# Altium integrated library SignalCommunications.IntLib: 804 symbols (part 5 of 10)
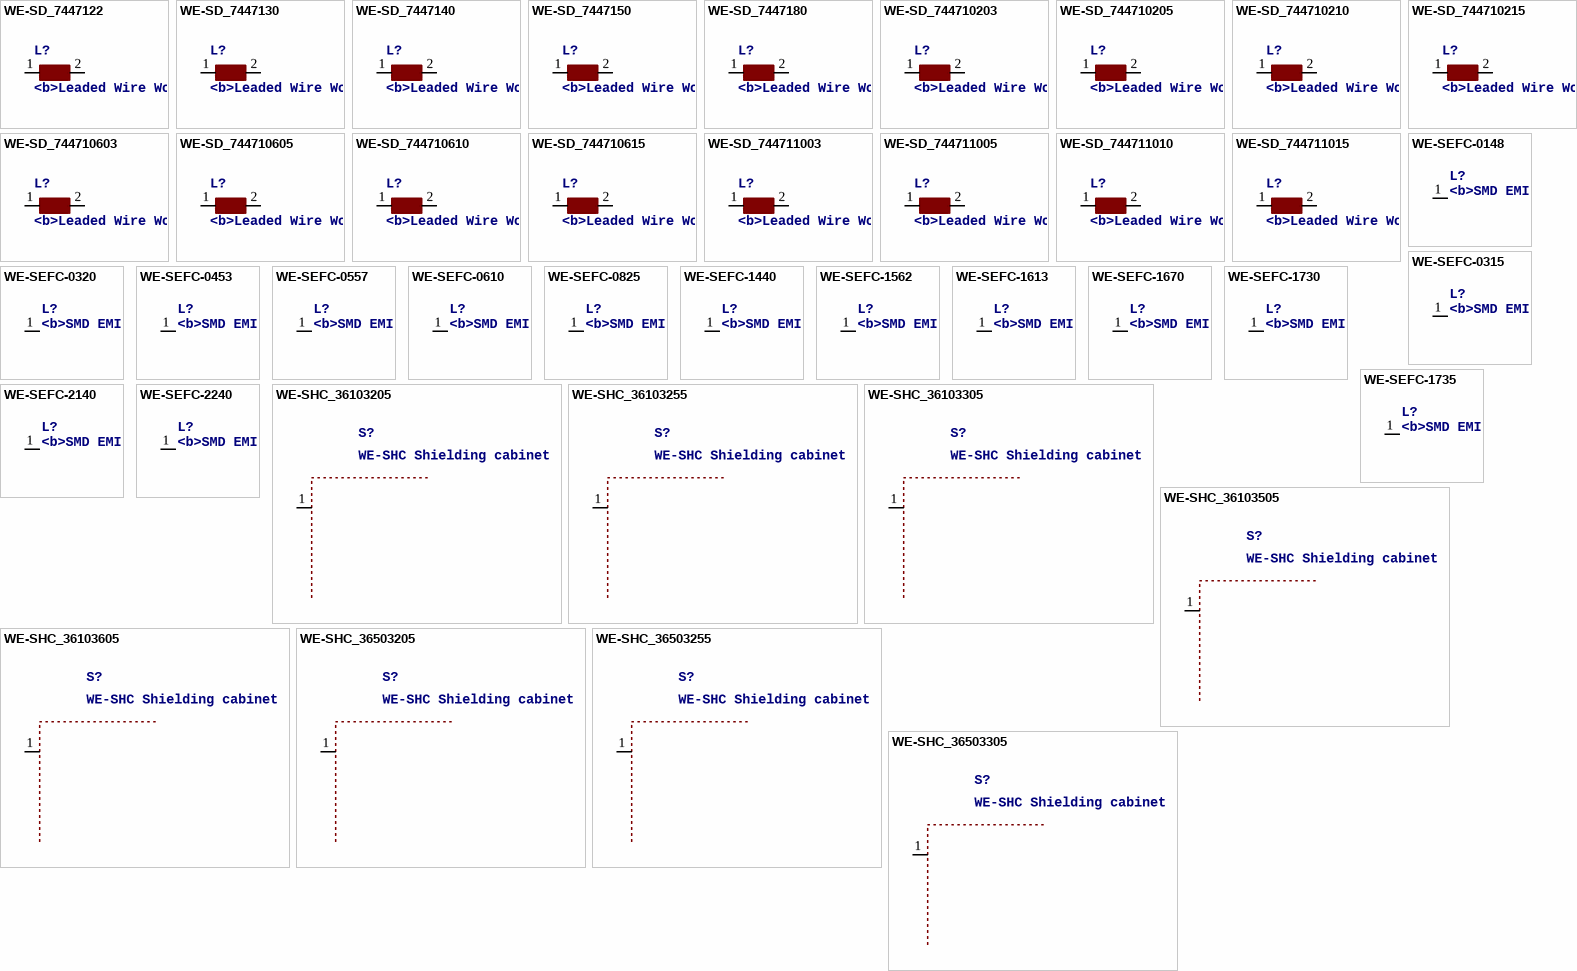
[diagram p46: symbols WE-SD_7447122 to WE-SHC_36503305]

## WE-SHC_36503205
designator S?, comment WE-SHC Shielding cabinet
footprint WE-SHC_36503205
pins: 1 GND (power)

## WE-SHC_36503255
designator S?, comment WE-SHC Shielding cabinet
footprint WE-SHC_36503255
pins: 1 GND (power)

## WE-SHC_36503305
designator S?, comment WE-SHC Shielding cabinet
footprint WE-SHC_36503305
pins: 1 GND (power)

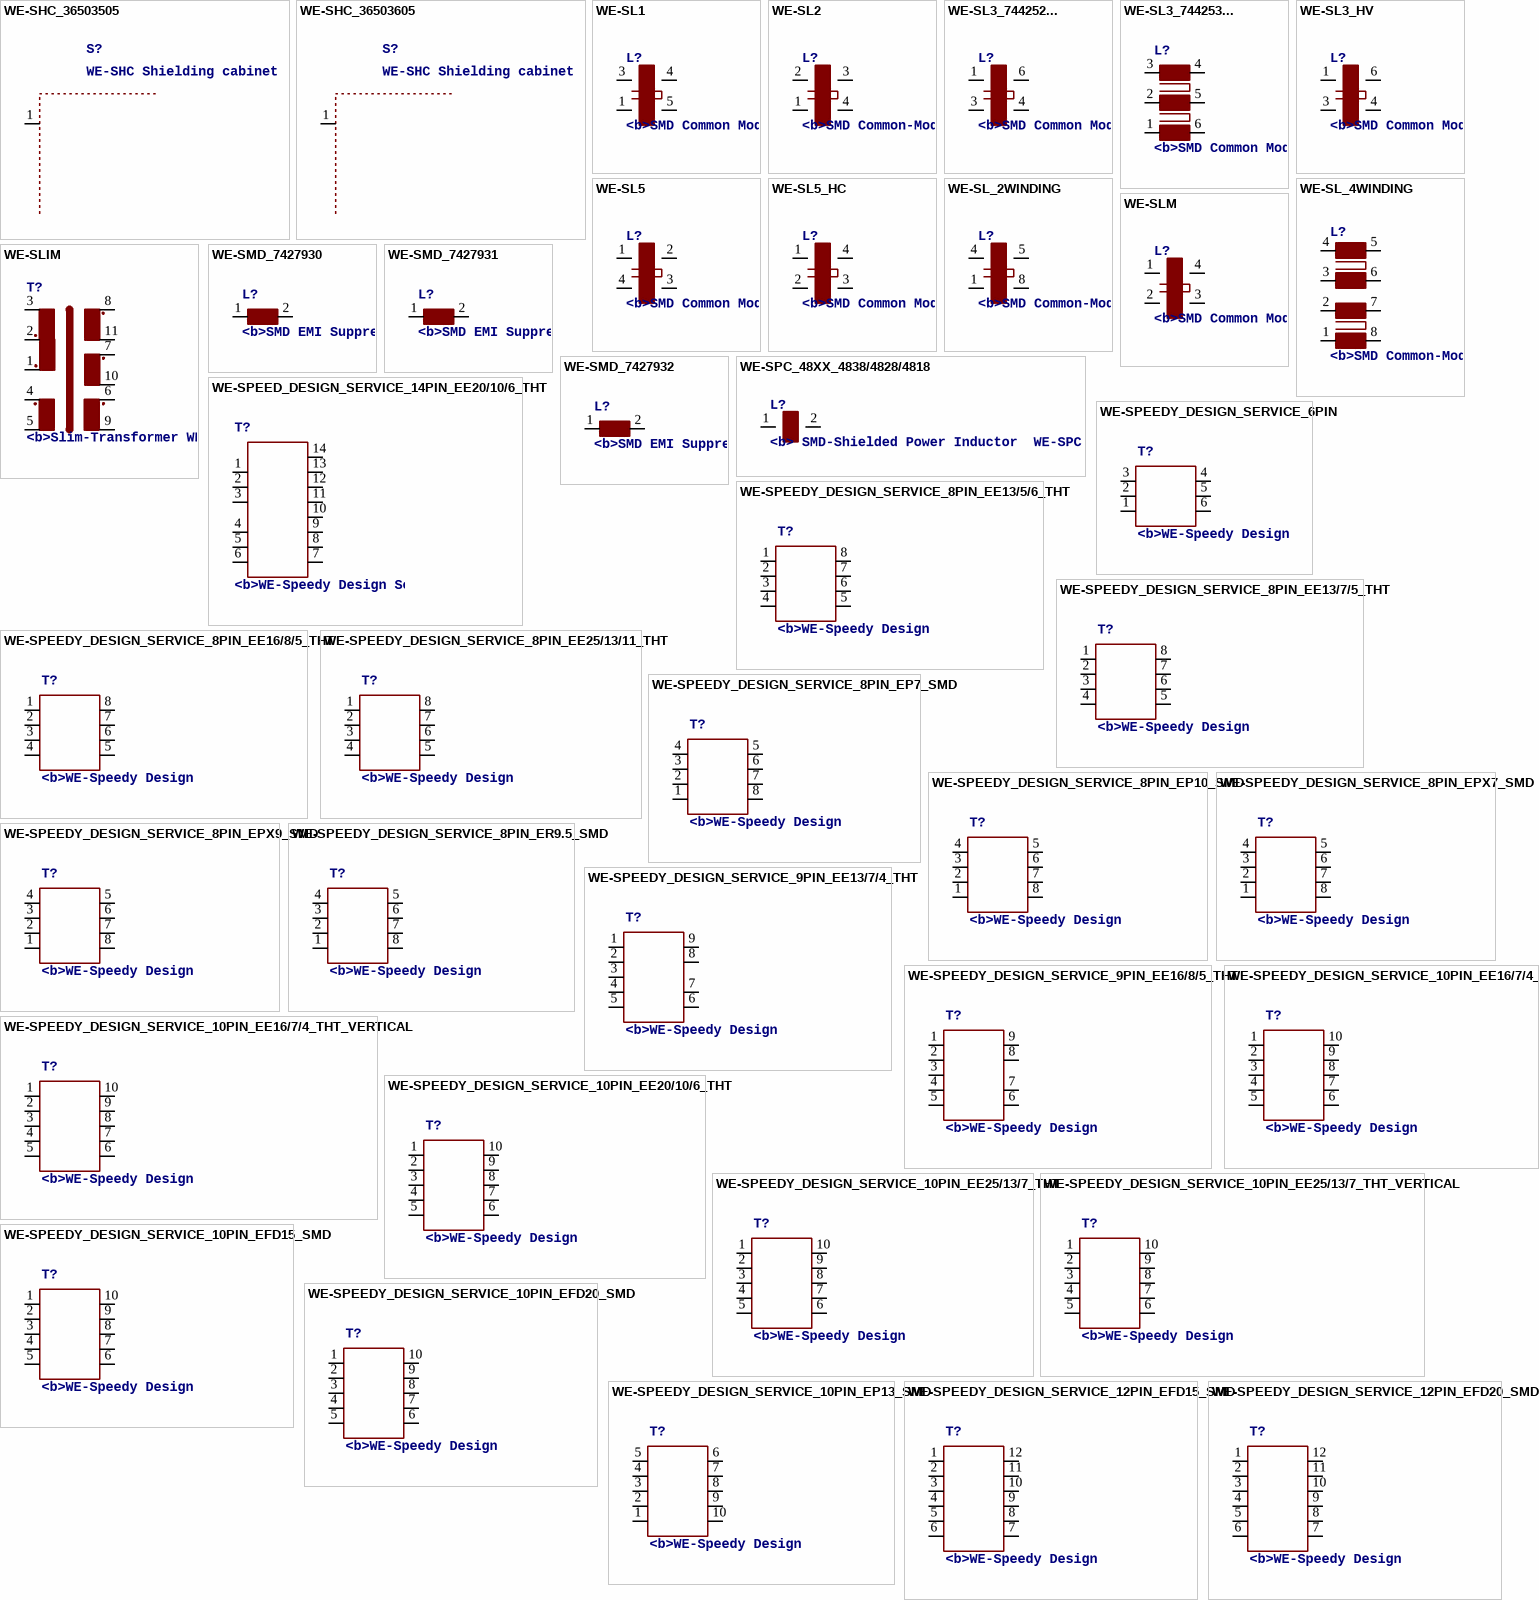
[diagram p31: symbols WE-SHC_36503505 to WE-SPEEDY_DESIGN_SERVICE_12PIN_EFD20_SMD]

## WE-SHC_36503505
designator S?, comment WE-SHC Shielding cabinet
footprint WE-SHC_36503505
pins: 1 GND (power)

## WE-SHC_36503605
designator S?, comment WE-SHC Shielding cabinet
footprint WE-SHC_36503605
pins: 1 GND (power)

## WE-SL1
designator L?, comment <b>SMD Common Mode Line Filter WE-SL1</b><p> / - Small size<br> / - Low Profile, only 1,65 mm<br> / - High Impedance up to 2000 ohm<br> / - High Current up to 300mA <br> / - Low leakage inductance<br><br> / -- USB<br> / -- CAN<br> / -- Firewire<br> / -- Data Lines<br> / -- Power Lines<br>
footprint WE-SL1
pins: 1, 3, 4, 5 2

## WE-SL2
designator L?, comment <b>SMD Common-Mode Line Filter WE-SL2</b><p> / For distortion-free removal of noise from transmitted / electrical signals<br> / - Double current-compensated choke<br> / - Offering a wide band width with the core materials NiZn/MnZn<br><br> / -- Current compensated choke for data and signal lines<br> / -- Power supply systems<br> / -- Filter for measurement signals<br> / -- CAN
footprint WE-SL2
pins: 1, 2 3, 3 4, 4 2

## WE-SL3_744252...
designator L?, comment <b>SMD Common Mode Line Filter WE-SL3</b><p> / - Small size<br> - Low Profile, only 2.5 mm<br>- High Impedance tp to 5000 ohm<br>- High Current up to 700mA <br> / - Low leakage inductance<p> / - USB<br> / - CAN<br> / -  Firewire<br> / - Data Lines<br> / - Power Lines<br>
footprint WE-SL3_744252...
pins: 1 3, 3 1, 4 2, 6 4

## WE-SL3_744253...
designator L?, comment <b>SMD Common Mode Line Filter WE-SL3</b><p> / - Small size<br> - Low Profile, only 2.5 mm<br>- High Impedance tp to 5000 ohm<br>- High Current up to 700mA <br> / - Low leakage inductance<p> / - USB<br> / - CAN<br> / -  Firewire<br> / - Data Lines<br> / - Power Lines<br>
footprint WE-SL3_744253...
pins: 1 3, 2, 3 1, 4 6, 5, 6 4

## WE-SL3_HV
designator L?, comment <b>SMD Common Mode Line Filter WE-SL3 HV with 1.5 kV Isolation Voltage</b><p> / - 1.5 kV isolation voltage <br> / - Low profile<br> / - Small sinze<br> / - Excellent attenuation characteristics<br><br> / -- 10/100/1000 Base-T<br> / -- xDSL<br> / -- Modem<br> / -- T1/E1<br> / -- ISDN<br> / -- For TNV-circuits
footprint WE-SL3_HV
pins: 1 3, 3 1, 4 2, 6 4

## WE-SL5
designator L?, comment <b>SMD Common Mode Line Filter WE-SL5</b><p> / - Small size<br> / - Low Profile<br> / - High Impedance up to 13000 ohm<br> / - High Current up to 2500mA <P> / -- Data Lines<br> / -- Power Lines
footprint WE-SL5
pins: 1 3, 2 4, 3 2, 4 1

## WE-SL5_HC
designator L?, comment <b>SMD Common Mode WE-SL5</b><p> / - Small size<br> / - Low Profile<br> / - High Impedance up to 1000 ohm<br> / - High Current up to 5000mA <P> / -- Data Lines<br> / -- Power Lines
footprint WE-SL5_HC
pins: 1 3, 2 1, 3 2, 4

## WE-SL_2WINDING
designator L?, comment <b>SMD Common-Mode Choke Line Filter WE-SL</b><p> / For distortion-free removal of noise from transmitted / electrical signals<br> / - 2 or 4 winding configuration<br> / - Offering a wide band width with the core materials of NiZn and MnZn<br><br> / -- Current compensated choke for data and signal lines<br> / -- USB/CAN/ISDN-Bus<br> / -- Power supply systems<br> / -- Control lines<br> / -- LAN, PBX, cable TV, CD-ROM, 8mm video, etc.
footprint WE-SL_2WINDING
pins: 1, 4 3, 5 4, 8 2

## WE-SL_4WINDING
designator L?, comment <b>SMD Common-Mode Choke Line Filter WE-SL</b><p> / For distortion-free removal of noise from transmitted / electrical signals<br> / - 2 or 4 winding configuration<br> / - Offering a wide band width with the core materials of NiZn and MnZn<br><br> / -- Current compensated choke for data and signal lines<br> / -- USB/CAN/ISDN-Bus<br> / -- Power supply systems<br> / -- Control lines<br> / -- LAN, PBX, cable TV, CD-ROM, 8mm video, etc.
footprint WE-SL_4WINDING
pins: 1 4, 2 3, 3 2, 4 1, 5 8, 6 7, 7 6, 8 5

## WE-SLIM
designator T?, comment <b>Slim-Transformer WE-SLIM</b><br><br> / - total hight 12.0 mm max.<br> / - height 8.0 mm above PCB<br> / - output power 65W<br><br> / -- offline switch mode power supplies<br> / -- TV<br> / -- devices with heigh issues
footprint WE_LEP28/11.2_6PIN
pins: 1, 2, 3, 4, 5, 6, 7, 8, 9, 10, 11

## WE-SLM
designator L?, comment <b>SMD Common Mode Line Filter WE-SLM</b><p> / - Small size<br> / - Low Profile<br> / - High Impedance<br> / - High current capability up to 300 mA<p> / -- USB<br> / -- CAN<br> / -- Firewire<br> / -- Data Lines<br> / -- Power supply systems<br> / -- Signal Lines
footprint WE-SLM
pins: 1 3, 2 1, 3 2, 4

## WE-SMD_7427930
designator L?, comment <b>SMD EMI Suppression Ferrite Beads (High Current)</b><br><br> / For applications where you need low DC resistance
footprint WE-SMD_7427930
pins: 1, 2

## WE-SMD_7427931
designator L?, comment <b>SMD EMI Suppression Ferrite Beads (High Current)</b><br><br> / For applications where you need low DC resistance
footprint WE-SMD_7427931
pins: 1, 2

## WE-SMD_7427932
designator L?, comment <b>SMD EMI Suppression Ferrite Beads (High Current)</b><br><br> / For applications where you need low DC resistance
footprint WE-SMD_7427932
pins: 1, 2

## WE-SPC_48XX_4838/4828/4818
designator L?, comment <b> SMD-Shielded Power Inductor  WE-SPC
footprint WE-SPC_48XX
pins: 1, 2

## WE-SPEED_DESIGN_SERVICE_14PIN_EE20/10/6_THT
designator T?, comment <b>WE-Speedy Design Service, 14 Pin</b><br><br> / - Any application that fits package style <br> / - Switch Mode Power: Flyback, Forward, Push-Pull, Coupled Inductor<br><br> / -- Telecom Applications: xDSL, POTS Splitter Inductors
footprint WE_EE20/10/6_THT_HORIZONTAL_14PIN
pins: 1, 2, 3, 4, 5, 6, 7, 8, 9, 10, 11, 12, 13, 14

## WE-SPEEDY_DESIGN_SERVICE_6PIN
designator T?, comment <b>WE-Speedy Design Service, 6 Pin</b><br><br> / - Any application that fits package style <br> / - Switch Mode Power: Flyback, Forward, Push-Pull, Coupled Inductor<br><br> / -- Telecom Applications: xDSL, POTS Splitter Inductors
footprint WE_EP5_SMD_6PIN
pins: 1, 2, 3, 4, 5, 6

## WE-SPEEDY_DESIGN_SERVICE_8PIN_EE13/5/6_THT
designator T?, comment <b>WE-Speedy Design Service, 8 Pin</b><br><br> / - Any application that fits package style <br> / - Switch Mode Power: Flyback, Forward, Push-Pull, Coupled Inductor<br><br> / -- Telecom Applications: xDSL, POTS Splitter Inductors
footprint WE_EE13/5/6_HORIZONTAL_8PIN
pins: 1 4, 2 3, 3 2, 4 1, 5 8, 6 7, 7 6, 8 5

## WE-SPEEDY_DESIGN_SERVICE_8PIN_EE13/7/5_THT
designator T?, comment <b>WE-Speedy Design Service, 8 Pin</b><br><br> / - Any application that fits package style <br> / - Switch Mode Power: Flyback, Forward, Push-Pull, Coupled Inductor<br><br> / -- Telecom Applications: xDSL, POTS Splitter Inductors
footprint WE_EE13/7/4_HORIZONTAL_8PIN
pins: 1 4, 2 3, 3 2, 4 1, 5 8, 6 7, 7 6, 8 5

## WE-SPEEDY_DESIGN_SERVICE_8PIN_EE16/8/5_THT
designator T?, comment <b>WE-Speedy Design Service, 8 Pin</b><br><br> / - Any application that fits package style <br> / - Switch Mode Power: Flyback, Forward, Push-Pull, Coupled Inductor<br><br> / -- Telecom Applications: xDSL, POTS Splitter Inductors
footprint WE_EE16/8/5_THT_HORIZONTAL_8PIN
pins: 1 4, 2 3, 3 2, 4 1, 5 8, 6 7, 7 6, 8 5

## WE-SPEEDY_DESIGN_SERVICE_8PIN_EE25/13/11_THT
designator T?, comment <b>WE-Speedy Design Service, 8 Pin</b><br><br> / - Any application that fits package style <br> / - Switch Mode Power: Flyback, Forward, Push-Pull, Coupled Inductor<br><br> / -- Telecom Applications: xDSL, POTS Splitter Inductors
footprint WE_EE25/13/11_THT_VERTICAL_8PIN
pins: 1 4, 2 3, 3 2, 4 1, 5 8, 6 7, 7 6, 8 5

## WE-SPEEDY_DESIGN_SERVICE_8PIN_EP7_SMD
designator T?, comment <b>WE-Speedy Design Service, 8 Pin</b><br><br> / - Any application that fits package style <br> / - Switch Mode Power: Flyback, Forward, Push-Pull, Coupled Inductor<br><br> / -- Telecom Applications: xDSL, POTS Splitter Inductors
footprint WE_EP7_SMD_8PIN
pins: 1, 2, 3, 4, 5, 6, 7, 8

## WE-SPEEDY_DESIGN_SERVICE_8PIN_EP10_SMD
designator T?, comment <b>WE-Speedy Design Service, 8 Pin</b><br><br> / - Any application that fits package style <br> / - Switch Mode Power: Flyback, Forward, Push-Pull, Coupled Inductor<br><br> / -- Telecom Applications: xDSL, POTS Splitter Inductors
footprint WE_EP10_SMD_8PIN
pins: 1, 2, 3, 4, 5, 6, 7, 8

## WE-SPEEDY_DESIGN_SERVICE_8PIN_EPX7_SMD
designator T?, comment <b>WE-Speedy Design Service, 8 Pin</b><br><br> / - Any application that fits package style <br> / - Switch Mode Power: Flyback, Forward, Push-Pull, Coupled Inductor<br><br> / -- Telecom Applications: xDSL, POTS Splitter Inductors
footprint WE_EPX7_SMD_8PIN
pins: 1, 2, 3, 4, 5, 6, 7, 8

## WE-SPEEDY_DESIGN_SERVICE_8PIN_EPX9_SMD
designator T?, comment <b>WE-Speedy Design Service, 8 Pin</b><br><br> / - Any application that fits package style <br> / - Switch Mode Power: Flyback, Forward, Push-Pull, Coupled Inductor<br><br> / -- Telecom Applications: xDSL, POTS Splitter Inductors
footprint WE_EPX9_SMD_8PIN
pins: 1, 2, 3, 4, 5, 6, 7, 8

## WE-SPEEDY_DESIGN_SERVICE_8PIN_ER9.5_SMD
designator T?, comment <b>WE-Speedy Design Service, 8 Pin</b><br><br> / - Any application that fits package style <br> / - Switch Mode Power: Flyback, Forward, Push-Pull, Coupled Inductor<br><br> / -- Telecom Applications: xDSL, POTS Splitter Inductors
footprint WE_ER9.5_SMD_8PIN
pins: 1, 2, 3, 4, 5, 6, 7, 8

## WE-SPEEDY_DESIGN_SERVICE_9PIN_EE13/7/4_THT
designator T?, comment <b>WE-Speedy Design Service, 9 Pin</b><br><br> / - Any application that fits package style <br> / - Switch Mode Power: Flyback, Forward, Push-Pull, Coupled Inductor<br><br> / -- Telecom Applications: xDSL, POTS Splitter Inductors
footprint WE_E13/7/4_THT_HORIZONTAL_9PIN
pins: 1 5, 2 4, 3, 4 2, 5 1, 6 9, 7 8, 8 7, 9 6

## WE-SPEEDY_DESIGN_SERVICE_9PIN_EE16/8/5_THT
designator T?, comment <b>WE-Speedy Design Service, 9 Pin</b><br><br> / - Any application that fits package style <br> / - Switch Mode Power: Flyback, Forward, Push-Pull, Coupled Inductor<br><br> / -- Telecom Applications: xDSL, POTS Splitter Inductors
footprint WE_EE16/8/5_THT_HORIZONTAL_9PIN
pins: 1 5, 2 4, 3, 4 2, 5 1, 6 9, 7 8, 8 7, 9 6

## WE-SPEEDY_DESIGN_SERVICE_10PIN_EE16/7/4_THT
designator T?, comment <b>WE-Speedy Design Service, 10 Pin</b><br><br> / - Any application that fits package style <br> / - Switch Mode Power: Flyback, Forward, Push-Pull, Coupled Inductor<br><br> / -- Telecom Applications: xDSL, POTS Splitter Inductors
footprint WE_EE16/7/4_THT_HORIZONTAL_10PIN
pins: 1, 2, 3, 4, 5, 6, 7, 8, 9, 10

## WE-SPEEDY_DESIGN_SERVICE_10PIN_EE16/7/4_THT_VERTICAL
designator T?, comment <b>WE-Speedy Design Service, 10 Pin</b><br><br> / - Any application that fits package style <br> / - Switch Mode Power: Flyback, Forward, Push-Pull, Coupled Inductor<br><br> / -- Telecom Applications: xDSL, POTS Splitter Inductors
footprint WE_E16/7/4_THT_VERTIKAL_10PIN
pins: 1, 2, 3, 4, 5, 6, 7, 8, 9, 10

## WE-SPEEDY_DESIGN_SERVICE_10PIN_EE20/10/6_THT
designator T?, comment <b>WE-Speedy Design Service, 10 Pin</b><br><br> / - Any application that fits package style <br> / - Switch Mode Power: Flyback, Forward, Push-Pull, Coupled Inductor<br><br> / -- Telecom Applications: xDSL, POTS Splitter Inductors
footprint WE_EE20/10/6_THT_HORIZONTAL_10PIN
pins: 1, 2, 3, 4, 5, 6, 7, 8, 9, 10

## WE-SPEEDY_DESIGN_SERVICE_10PIN_EE25/13/7_THT
designator T?, comment <b>WE-Speedy Design Service, 10 Pin</b><br><br> / - Any application that fits package style <br> / - Switch Mode Power: Flyback, Forward, Push-Pull, Coupled Inductor<br><br> / -- Telecom Applications: xDSL, POTS Splitter Inductors
footprint WE_EE25/13/7_THT_HORIZONTAL_10PIN
pins: 1, 2, 3, 4, 5, 6, 7, 8, 9, 10

## WE-SPEEDY_DESIGN_SERVICE_10PIN_EE25/13/7_THT_VERTICAL
designator T?, comment <b>WE-Speedy Design Service, 10 Pin</b><br><br> / - Any application that fits package style <br> / - Switch Mode Power: Flyback, Forward, Push-Pull, Coupled Inductor<br><br> / -- Telecom Applications: xDSL, POTS Splitter Inductors
footprint WE_EE25/13/7_THT_VERTICAL_10PIN
pins: 1, 2, 3, 4, 5, 6, 7, 8, 9, 10

## WE-SPEEDY_DESIGN_SERVICE_10PIN_EFD15_SMD
designator T?, comment <b>WE-Speedy Design Service, 10 Pin</b><br><br> / - Any application that fits package style <br> / - Switch Mode Power: Flyback, Forward, Push-Pull, Coupled Inductor<br><br> / -- Telecom Applications: xDSL, POTS Splitter Inductors
footprint WE_EFD15_SMD_10PIN
pins: 1, 2, 3, 4, 5, 6, 7, 8, 9, 10

## WE-SPEEDY_DESIGN_SERVICE_10PIN_EFD20_SMD
designator T?, comment <b>WE-Speedy Design Service, 10 Pin</b><br><br> / - Any application that fits package style <br> / - Switch Mode Power: Flyback, Forward, Push-Pull, Coupled Inductor<br><br> / -- Telecom Applications: xDSL, POTS Splitter Inductors
footprint WE_EFD20_SMD_10PIN
pins: 1, 2, 3, 4, 5, 6, 7, 8, 9, 10

## WE-SPEEDY_DESIGN_SERVICE_10PIN_EP13_SMD
designator T?, comment <b>WE-Speedy Design Service, 10 Pin</b><br><br> / - Any application that fits package style <br> / - Switch Mode Power: Flyback, Forward, Push-Pull, Coupled Inductor<br><br> / -- Telecom Applications: xDSL, POTS Splitter Inductors
footprint WE_EP13_SMD_10PIN
pins: 1 5, 2 4, 3, 4 2, 5 1, 6 10, 7 9, 8, 9 7, 10 6

## WE-SPEEDY_DESIGN_SERVICE_12PIN_EFD15_SMD
designator T?, comment <b>WE-Speedy Design Service, 12 Pin</b><br><br> / - Any application that fits package style <br> / - Switch Mode Power: Flyback, Forward, Push-Pull, Coupled Inductor<br><br> / -- Telecom Applications: xDSL, POTS Splitter Inductors
footprint WE_EFD15_SMD_12PIN
pins: 1, 2, 3, 4, 5, 6, 7, 8, 9, 10, 11, 12

## WE-SPEEDY_DESIGN_SERVICE_12PIN_EFD20_SMD
designator T?, comment <b>WE-Speedy Design Service, 12 Pin</b><br><br> / - Any application that fits package style <br> / - Switch Mode Power: Flyback, Forward, Push-Pull, Coupled Inductor<br><br> / -- Telecom Applications: xDSL, POTS Splitter Inductors
footprint WE_EFD20_SMD_12PIN
pins: 1, 2, 3, 4, 5, 6, 7, 8, 9, 10, 11, 12

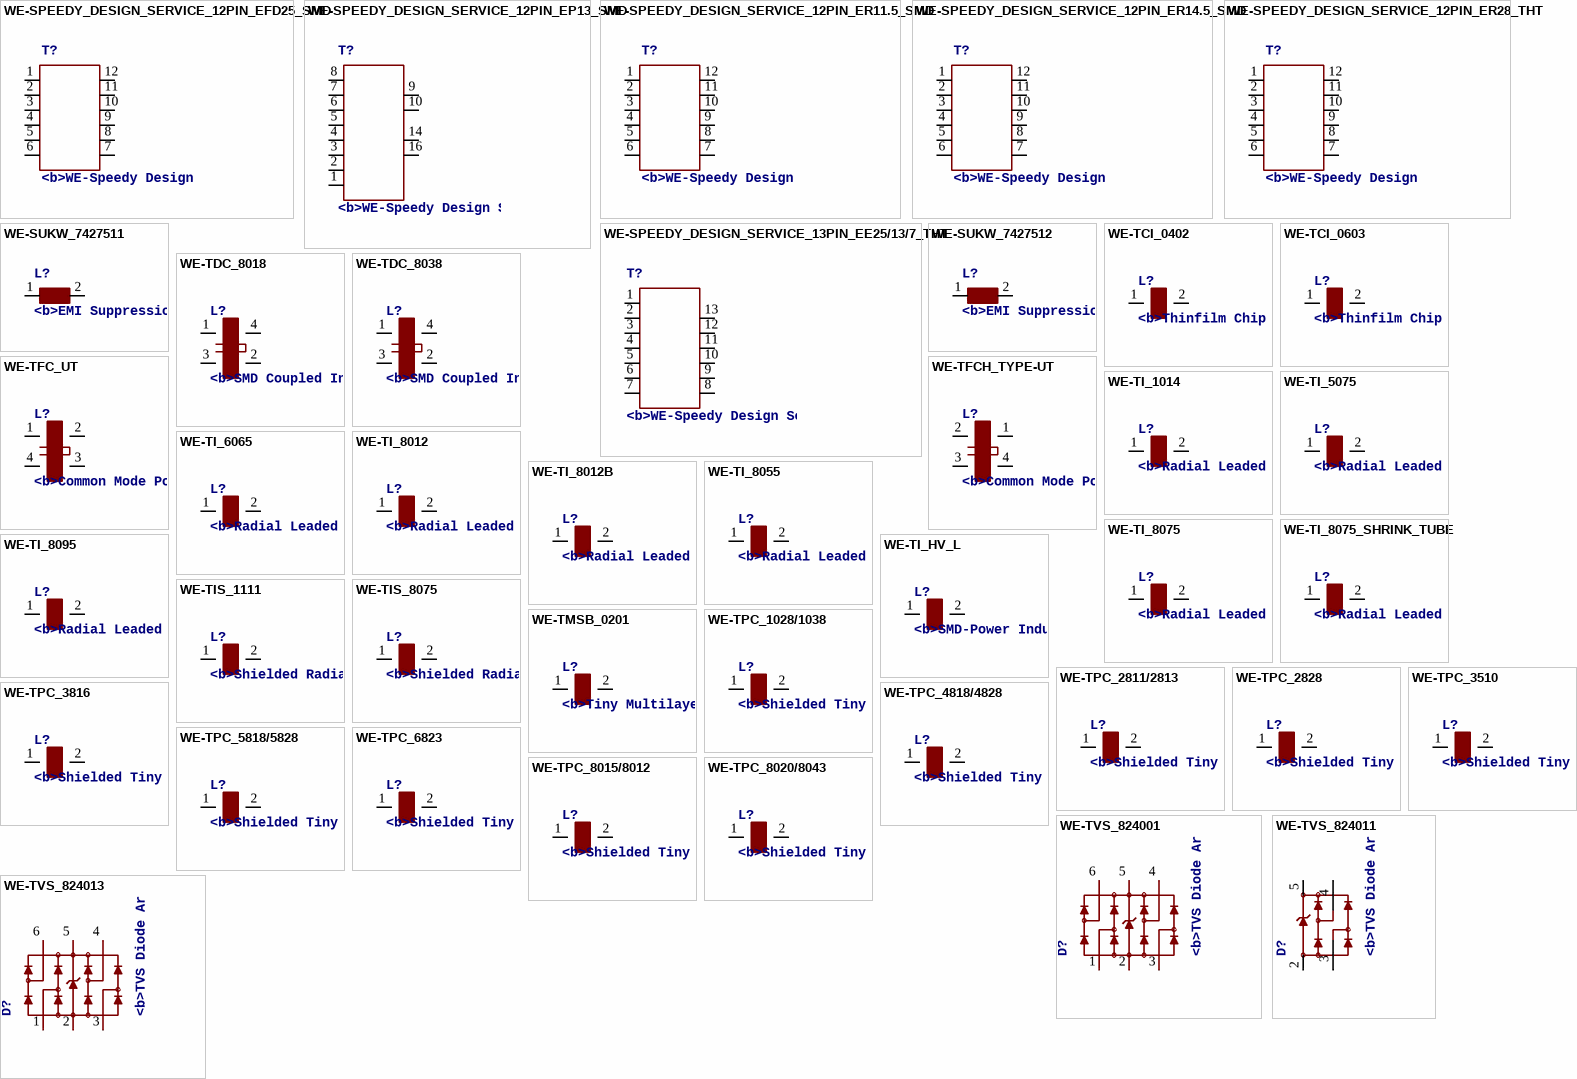
[diagram p32: symbols WE-SPEEDY_DESIGN_SERVICE_12PIN_EFD25_SMD to WE-TVS_824013]

## WE-SPEEDY_DESIGN_SERVICE_12PIN_EFD25_SMD
designator T?, comment <b>WE-Speedy Design Service, 12 Pin</b><br><br> / - Any application that fits package style <br> / - Switch Mode Power: Flyback, Forward, Push-Pull, Coupled Inductor<br><br> / -- Telecom Applications: xDSL, POTS Splitter Inductors
footprint WE_EFD25_SMD_12PIN
pins: 1, 2, 3, 4, 5, 6, 7, 8, 9, 10, 11, 12

## WE-SPEEDY_DESIGN_SERVICE_12PIN_EP13_SMD
designator T?, comment <b>WE-Speedy Design Service, 12 Pin</b><br><br> / - Any application that fits package style <br> / - Switch Mode Power: Flyback, Forward, Push-Pull, Coupled Inductor<br><br> / -- Telecom Applications: xDSL, POTS Splitter Inductors
footprint WE_EP13_SMD_12PIN
pins: 1, 2, 3, 4, 5, 6, 7, 8, 9, 10, 14 11, 16 12

## WE-SPEEDY_DESIGN_SERVICE_12PIN_ER11.5_SMD
designator T?, comment <b>WE-Speedy Design Service, 12 Pin</b><br><br> / - Any application that fits package style <br> / - Switch Mode Power: Flyback, Forward, Push-Pull, Coupled Inductor<br><br> / -- Telecom Applications: xDSL, POTS Splitter Inductors
footprint WE_ER11.5_SMD_12PIN
pins: 1, 2, 3, 4, 5, 6, 7, 8, 9, 10, 11, 12

## WE-SPEEDY_DESIGN_SERVICE_12PIN_ER14.5_SMD
designator T?, comment <b>WE-Speedy Design Service, 12 Pin</b><br><br> / - Any application that fits package style <br> / - Switch Mode Power: Flyback, Forward, Push-Pull, Coupled Inductor<br><br> / -- Telecom Applications: xDSL, POTS Splitter Inductors
footprint WE_ER14.5_SMD_12PIN
pins: 1, 2, 3, 4, 5, 6, 7, 8, 9, 10, 11, 12

## WE-SPEEDY_DESIGN_SERVICE_12PIN_ER28_THT
designator T?, comment <b>WE-Speedy Design Service, 12 Pin</b><br><br> / - Any application that fits package style <br> / - Switch Mode Power: Flyback, Forward, Push-Pull, Coupled Inductor<br><br> / -- Telecom Applications: xDSL, POTS Splitter Inductors
footprint WE_ER28_THT_HORIZONTAL_12PIN
pins: 1, 2, 3, 4, 5, 6, 7, 8, 9, 10, 11, 12

## WE-SPEEDY_DESIGN_SERVICE_13PIN_EE25/13/7_THT
designator T?, comment <b>WE-Speedy Design Service, 13 Pin</b><br><br> / - Any application that fits package style <br> / - Switch Mode Power: Flyback, Forward, Push-Pull, Coupled Inductor<br><br> / -- Telecom Applications: xDSL, POTS Splitter Inductors
footprint WE_EE25/13/7_THT_HORIZONTAL_13PIN
pins: 1, 2, 3, 4, 5, 6, 7, 8, 9, 10, 11, 12, 13

## WE-SUKW_7427511
designator L?, comment <b>EMI Suppression 5-Hole Ferrite Bead WE-SUKW</b><p> / - Rated current up to 5 A<br> / - Impedances up to 580 ohms<br> / - Low DC resistance with 3 mohms<p> / -- Protection against radio frequency interferences of components on PCB´s of PC´s, text processing and other digital devices<br> / -- Typical in power supply<br> / -- Power electronics
footprint WE-SUKW_7427511
pins: 1, 2

## WE-SUKW_7427512
designator L?, comment <b>EMI Suppression 5-Hole Ferrite Bead WE-SUKW</b><p> / - Rated current up to 5 A<br> / - Impedances up to 580 ohms<br> / - Low DC resistance with 3 mohms<p> / -- Protection against radio frequency interferences of components on PCB´s of PC´s, text processing and other digital devices<br> / -- Typical in power supply<br> / -- Power electronics
footprint WE-SUKW_7427512
pins: 1, 2

## WE-TCI_0402
designator L?, comment <b>Thinfilm Chip Inductor WE-TCI</b><br><br> / - High self resonant frequency<br> / - excellent Q<br> / - tight inductance tolerance of 2% or 0,1 nH and small inductance values<br> / - In high frequency circuit the inductance is very stable<br> / - Small inductance values<br><br> / -- Cellular Telephone<br> / -- Pagers<br> / -- GPS products<br> / -- Wireless LAN<br> / -- Communication appliances<br> / -- RF Transceiver Module
footprint WE-TCI_0402
pins: 1, 2

## WE-TCI_0603
designator L?, comment <b>Thinfilm Chip Inductor WE-TCI</b><br><br> / - High self resonant frequency<br> / - excellent Q<br> / - tight inductance tolerance of 2% or 0,1 nH and small inductance values<br> / - In high frequency circuit the inductance is very stable<br> / - Small inductance values<br><br> / -- Cellular Telephone<br> / -- Pagers<br> / -- GPS products<br> / -- Wireless LAN<br> / -- Communication appliances<br> / -- RF Transceiver Module
footprint WE-TCI_0603
pins: 1, 2

## WE-TDC_8018
designator L?, comment <b>SMD Coupled Inductor WE-TDC</b><br><br> / - 1:1 transformer <br> / - Double inductor with two identical windings<br><br> / -- for SEPIC and CUK topologies<br> / -- Flyback applications<br> / -- Switching regulators with second, unregulated output voltag
footprint WE-TDC_80XX
pins: 1 3, 2, 3 1, 4

## WE-TDC_8038
designator L?, comment <b>SMD Coupled Inductor WE-TDC</b><br><br> / - 1:1 transformer <br> / - Double inductor with two identical windings<br><br> / -- for SEPIC and CUK topologies<br> / -- Flyback applications<br> / -- Switching regulators with second, unregulated output voltag
footprint WE-TDC_80XX
pins: 1 3, 2, 3 1, 4

## WE-TFC_UT
designator L?, comment <b>Common Mode Power Line Choke WE-TFC</b><br><br> / - approximinate 1% stray inductance for symmetrical interference suppression<br><br> / -- main filter<br> / .. suppression of common mode noise<br> / -- compact switch mode power supplier<br> / -- lighting<br> / -- white goods
footprint WE-TFC
pins: 1 3, 2 4, 3 2, 4 1

## WE-TFCH_TYPE-UT
designator L?, comment <b>Common Mode Power Line Choke (Horizontal) WE-TFCH</b><p> / - Approximate 1% stray inductance for symmetrical interference suppression<br> / <br> / -- Mains filter <br> / -- Suppression of common mode noise <br> / -- Compact switch mode power supplies <br> / -- Electronic ballast applications (LED bulb)<br> / --Lighting
MANUFACTURER: Würth Elektronik eiSos GmbH; CREATED-BY: Christin Otto; COMPANY-URL: http://www.we-online.de; CREATED-DATE: MAR 2013; DATASHEET-URL: http://katalog.we-online.de/en/pbs/WE-TFCH?m=t&sq=tfch&sp=&sp=http%3A%2F%2Fwww.we-online.de%2Fweb%2Fen%2Felectronic_components%2Fsearchpage_PBS.php%3Fsearch%3DTFCH
footprint WE-TFCH
pins: 1 4, 2 3, 3 1, 4 2

## WE-TI_1014
designator L?, comment <b>Radial Leaded Wire Wound Inductor WE-TI</b><p> / - Radial through-hole inductor<br> / - High saturation core material<br> / - Small size<br> / - maximum current up to 7,5 A<p> / -- Signal filtering<br> / -- NF-switches, switching power supply for small and medium voltage<br> / -- Power supply filter
footprint WE-TI_1014
pins: 1, 2

## WE-TI_5075
designator L?, comment <b>Radial Leaded Wire Wound Inductor WE-TI</b><p> / - Radial through-hole inductor<br> / - High saturation core material<br> / - Small size<br> / - maximum current up to 7,5 A<p> / -- Signal filtering<br> / -- NF-switches, switching power supply for small and medium voltage<br> / -- Power supply filter
footprint WE-TI_5075
pins: 1, 2

## WE-TI_6065
designator L?, comment <b>Radial Leaded Wire Wound Inductor WE-TI</b><p> / - Radial through-hole inductor<br> / - High saturation core material<br> / - Small size<br> / - maximum current up to 7,5 A<p> / -- Signal filtering<br> / -- NF-switches, switching power supply for small and medium voltage<br> / -- Power supply filter
footprint WE-TI_6065
pins: 1, 2

## WE-TI_8012
designator L?, comment <b>Radial Leaded Wire Wound Inductor WE-TI</b><p> / - Radial through-hole inductor<br> / - High saturation core material<br> / - Small size<br> / - maximum current up to 7,5 A<p> / -- Signal filtering<br> / -- NF-switches, switching power supply for small and medium voltage<br> / -- Power supply filter
footprint WE-TI_8012
pins: 1, 2

## WE-TI_8012B
designator L?, comment <b>Radial Leaded Wire Wound Inductor WE-TI</b><p> / - Radial through-hole inductor<br> / - High saturation core material<br> / - Small size<br> / - maximum current up to 7,5 A<p> / -- Signal filtering<br> / -- NF-switches, switching power supply for small and medium voltage<br> / -- Power supply filter
footprint WE-TI_8012B
pins: 1, 2

## WE-TI_8055
designator L?, comment <b>Radial Leaded Wire Wound Inductor WE-TI</b><p> / - Radial through-hole inductor<br> / - High saturation core material<br> / - Small size<br> / - maximum current up to 7,5 A<p> / -- Signal filtering<br> / -- NF-switches, switching power supply for small and medium voltage<br> / -- Power supply filter
footprint WE-TI_8055
pins: 1, 2

## WE-TI_8075
designator L?, comment <b>Radial Leaded Wire Wound Inductor WE-TI</b><p> / - Radial through-hole inductor<br> / - High saturation core material<br> / - Small size<br> / - maximum current up to 7,5 A<p> / -- Signal filtering<br> / -- NF-switches, switching power supply for small and medium voltage<br> / -- Power supply filter
footprint WE-TI_8075
pins: 1, 2

## WE-TI_8075_SHRINK_TUBE
designator L?, comment <b>Radial Leaded Wire Wound Inductor WE-TI</b><p> / - Radial through-hole inductor<br> / - High saturation core material<br> / - Small size<br> / - maximum current up to 7,5 A<p> / -- Signal filtering<br> / -- NF-switches, switching power supply for small and medium voltage<br> / -- Power supply filter
footprint WE-TI_8075_SHRINKTUBE
pins: 1, 2

## WE-TI_8095
designator L?, comment <b>Radial Leaded Wire Wound Inductor WE-TI</b><p> / - Radial through-hole inductor<br> / - High saturation core material<br> / - Small size<br> / - maximum current up to 7,5 A<p> / -- Signal filtering<br> / -- NF-switches, switching power supply for small and medium voltage<br> / -- Power supply filter
footprint WE-TI_8095
pins: 1, 2

## WE-TI_HV_L
designator L?, comment <b>SMD-Power Inductors WE-TI HV</b><p> / - Unshielde construction<br> / - Designed for 400VDC<br> / - Radial through-hole inductor<br> / - High saturation core material<p> / -- Non-isolated buck or buck-boost converter like Power Integrations LinkSwitch-TN<br> / -- Constant current LED driver<br> / -- Utility metering<br> / -- Filter for power supply
footprint WE-TI_8095
pins: 1, 2

## WE-TIS_1111
designator L?, comment <b>Shielded Radial Leaded Inductor</b><p> / - Shielded radial through-hole inductor<br> / - High rated and saturation current<br> / - High inductance values<br> / - Low stray field<br><br> / -- Filter choke<br> / -- Storage choke<br> / -- Class D amplifiers
footprint WE-TIS_1111
pins: 1, 2

## WE-TIS_8075
designator L?, comment <b>Shielded Radial Leaded Inductor</b><p> / - Shielded radial through-hole inductor<br> / - High rated and saturation current<br> / - High inductance values<br> / - Low stray field<br><br> / -- Filter choke<br> / -- Storage choke<br> / -- Class D amplifiers
footprint WE-TIS_8075
pins: 1, 2

## WE-TMSB_0201
designator L?, comment <b>Tiny Multilayer Suppression Bead WE-TMSB</b><p> / - Perfect for Miniaturization of EMI solutions<br> / - Wide Impedance range from 10 up to 300 Ω<br> / - Operating Temperature: –55 °C  to +125 °C<p> / -- General signal and low power lines<br> / -- Audio-, video-, clocklines<br> / -- Small handheld<br>
MANUFACTURER: Würth Elektronik eiSos GmbH; CREATED-BY: Christin Otto; COMPANY-URL: http://www.we-online.de; CREATED-DATE: August 2013; DATASHEET-URL: http://katalog.we-online.de/de/pbs/WE-TMSB?sid=4c5a5b26c6
footprint WE-TMSB_0201
pins: 1, 2

## WE-TPC_1028/1038
designator L?, comment <b>Shielded Tiny Power Inductor WE-TPC</b><p> / - Extremely flat power inductor<br> / - High current capability<br> / - High reliability and perfect soldering characteristics<br> / because of integrated soldering pad<br> / - magnetically shielded<br><br> / -- Portable power like PDA, digital camera, / PCMICA-cards and displays<br> / -- DC/DC-converter<br> / -- Recommended for switching regulator IC's from / Linear Technology, National Semiconductor, / Texas Instruments and Fairchild Semiconductor
footprint WE-TPC_1028/1038
pins: 1, 2

## WE-TPC_2811/2813
designator L?, comment <b>Shielded Tiny Power Inductor WE-TPC</b><p> / - Extremely flat power inductor<br> / - High current capability<br> / - High reliability and perfect soldering characteristics<br> / because of integrated soldering pad<br> / - magnetically shielded<br><br> / -- Portable power like PDA, digital camera, / PCMICA-cards and displays<br> / -- DC/DC-converter<br> / -- Recommended for switching regulator IC's from / Linear Technology, National Semiconductor, / Texas Instruments and Fairchild Semiconductor
footprint WE-TPC_2811/2813
pins: 1, 2

## WE-TPC_2828
designator L?, comment <b>Shielded Tiny Power Inductor WE-TPC</b><p> / - Extremely flat power inductor<br> / - High current capability<br> / - High reliability and perfect soldering characteristics<br> / because of integrated soldering pad<br> / - magnetically shielded<br><br> / -- Portable power like PDA, digital camera, / PCMICA-cards and displays<br> / -- DC/DC-converter<br> / -- Recommended for switching regulator IC's from / Linear Technology, National Semiconductor, / Texas Instruments and Fairchild Semiconductor
footprint WE-TPC_2828
pins: 1, 2

## WE-TPC_3510
designator L?, comment <b>Shielded Tiny Power Inductor WE-TPC</b><p> / - Extremely flat power inductor<br> / - High current capability<br> / - High reliability and perfect soldering characteristics<br> / because of integrated soldering pad<br> / - magnetically shielded<br><br> / -- Portable power like PDA, digital camera, / PCMICA-cards and displays<br> / -- DC/DC-converter<br> / -- Recommended for switching regulator IC's from / Linear Technology, National Semiconductor, / Texas Instruments and Fairchild Semiconductor
footprint WE-TPC_3510
pins: 1, 2

## WE-TPC_3816
designator L?, comment <b>Shielded Tiny Power Inductor WE-TPC</b><p> / - Extremely flat power inductor<br> / - High current capability<br> / - High reliability and perfect soldering characteristics<br> / because of integrated soldering pad<br> / - magnetically shielded<br><br> / -- Portable power like PDA, digital camera, / PCMICA-cards and displays<br> / -- DC/DC-converter<br> / -- Recommended for switching regulator IC's from / Linear Technology, National Semiconductor, / Texas Instruments and Fairchild Semiconductor
footprint WE-TPC_3816
pins: 1, 2

## WE-TPC_4818/4828
designator L?, comment <b>Shielded Tiny Power Inductor WE-TPC</b><p> / - Extremely flat power inductor<br> / - High current capability<br> / - High reliability and perfect soldering characteristics<br> / because of integrated soldering pad<br> / - magnetically shielded<br><br> / -- Portable power like PDA, digital camera, / PCMICA-cards and displays<br> / -- DC/DC-converter<br> / -- Recommended for switching regulator IC's from / Linear Technology, National Semiconductor, / Texas Instruments and Fairchild Semiconductor
footprint WE-TPC_4818/4828
pins: 1, 2

## WE-TPC_5818/5828
designator L?, comment <b>Shielded Tiny Power Inductor WE-TPC</b><p> / - Extremely flat power inductor<br> / - High current capability<br> / - High reliability and perfect soldering characteristics<br> / because of integrated soldering pad<br> / - magnetically shielded<br><br> / -- Portable power like PDA, digital camera, / PCMICA-cards and displays<br> / -- DC/DC-converter<br> / -- Recommended for switching regulator IC's from / Linear Technology, National Semiconductor, / Texas Instruments and Fairchild Semiconductor
footprint WE-TPC_5818/5828
pins: 1, 2

## WE-TPC_6823
designator L?, comment <b>Shielded Tiny Power Inductor WE-TPC</b><p> / - Extremely flat power inductor<br> / - High current capability<br> / - High reliability and perfect soldering characteristics<br> / because of integrated soldering pad<br> / - magnetically shielded<br><br> / -- Portable power like PDA, digital camera, / PCMICA-cards and displays<br> / -- DC/DC-converter<br> / -- Recommended for switching regulator IC's from / Linear Technology, National Semiconductor, / Texas Instruments and Fairchild Semiconductor
footprint WE-TPC_6823
pins: 1, 2

## WE-TPC_8015/8012
designator L?, comment <b>Shielded Tiny Power Inductor WE-TPC</b><p> / - Extremely flat power inductor<br> / - High current capability<br> / - High reliability and perfect soldering characteristics<br> / because of integrated soldering pad<br> / - magnetically shielded<br><br> / -- Portable power like PDA, digital camera, / PCMICA-cards and displays<br> / -- DC/DC-converter<br> / -- Recommended for switching regulator IC's from / Linear Technology, National Semiconductor, / Texas Instruments and Fairchild Semiconductor
footprint WE-TPC_8015/8012
pins: 1, 2

## WE-TPC_8020/8043
designator L?, comment <b>Shielded Tiny Power Inductor WE-TPC</b><p> / - Extremely flat power inductor<br> / - High current capability<br> / - High reliability and perfect soldering characteristics<br> / because of integrated soldering pad<br> / - magnetically shielded<br><br> / -- Portable power like PDA, digital camera, / PCMICA-cards and displays<br> / -- DC/DC-converter<br> / -- Recommended for switching regulator IC's from / Linear Technology, National Semiconductor, / Texas Instruments and Fairchild Semiconductor
footprint WE-TPC_8020/8043
pins: 1, 2

## WE-TVS_824001
designator D?, comment <b>TVS Diode Array WE-TVS, High Speed Series</b><br><br> / - Low capazity<br> / - No leakage current<br> / - Low clamping voltage<br> / - high ESD voltage protection<br><br> / -- USB 1.0 - 2.0 Double Port<br> / -- Ethernet<br>
footprint WE-TVS_SOT23-6L
pins: 1, 2 GND (power), 3 2, 4 3, 5 VDD (power), 6 4

## WE-TVS_824011
designator D?, comment <b>TVS Diode Array WE-TVS, High Speed Series</b><br><br> / - Low capazity<br> / - No leakage current<br> / - Low clamping voltage<br> / - high ESD voltage protection<br><br> / -- USB 1.0 - 2.0 <br>
footprint WE-TVS_SOT23-5L
pins: 2 GND (power), 3 1, 4 2, 5 VDD (power)

## WE-TVS_824013
designator D?, comment <b>TVS Diode Array WE-TVS, High Speed Series</b><br><br> / - Low capazity<br> / - No leakage current<br> / - Low clamping voltage<br> / - high ESD voltage protection<br><br> / -- 3.3 VDC Application<br>
footprint WE-TVS_SOT23-6L
pins: 1, 2 GND (power), 3 2, 4 3, 5 VDD (power), 6 4

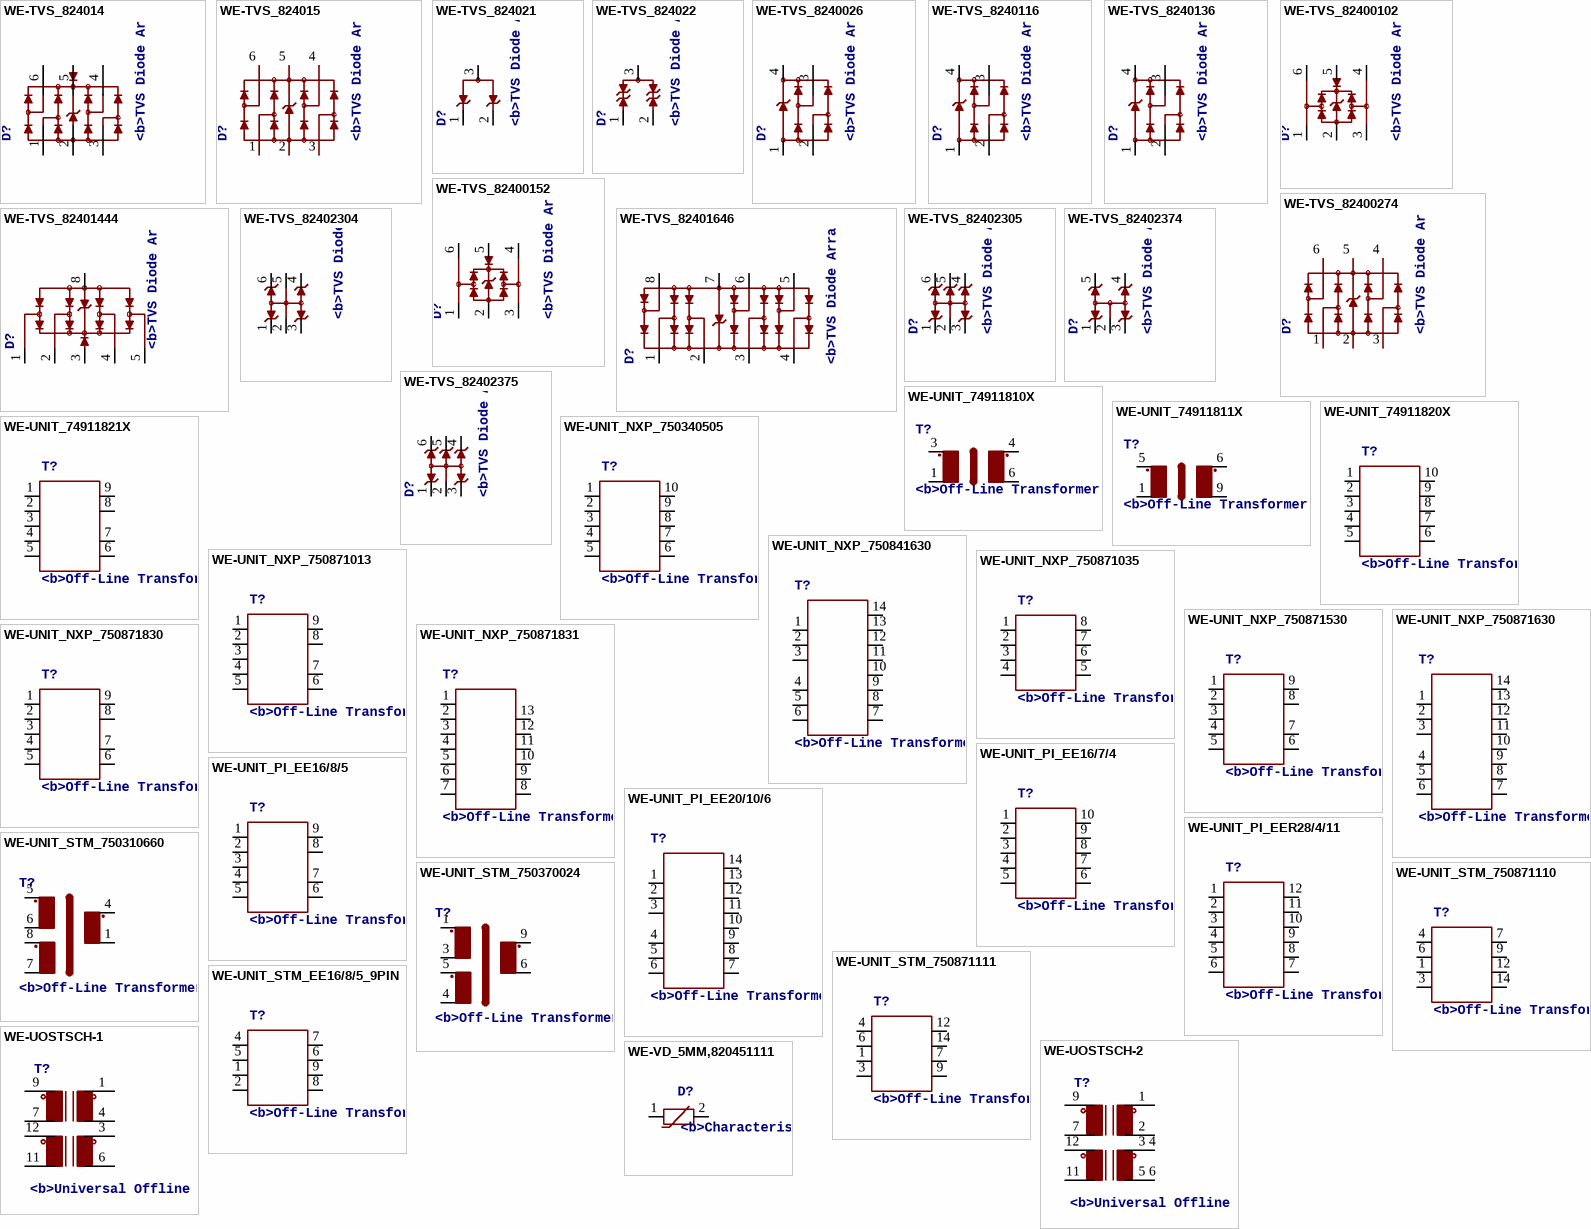
[diagram p33: symbols WE-TVS_824014 to WE-VD_5MM,820451111]

## WE-TVS_824014
designator D?, comment <b>TVS Diode Array WE-TVS, Super Speed Serie</b><br><br> / - Low capazity<br> / - No leakage current<br> / - Low clamping voltage<br> / - high ESD voltage protection<br><br> / -- SATA<br> / -- DisplayPort<br> / -- DVI<br> / -- HDMI
footprint WE-TVS_SOT23-6L
pins: 1, 2 GND (power), 3 2, 4 3, 5 VDD (power), 6 4

## WE-TVS_824015
designator D?, comment <b>TVS Diode Array WE-TVS, High Speed Series</b><br><br> / - Low capazity<br> / - No leakage current<br> / - Low clamping voltage<br> / - high ESD voltage protection<br><br> / -- USB 1.0 - 2.0 Double Port<br> / -- Ethernet<br>
footprint WE-TVS_SOT23-6L
pins: 1, 2 GND (power), 3 2, 4 3, 5 VDD (power), 6 4

## WE-TVS_824021
designator D?, comment <b>TVS Diode Array WE-TVS, Standard Series</b><br><br> / - Low capazity<br> / - No leakage current<br> / - Low clamping voltage<br> / - high ESD voltage protection<br> / - Uni- and bidirectional protection<br><br> / -- DC Distribution<br> / -- Headsets and Accessoires<br> / -- PDAs<br> / -- Digital Cameras<br> / -- MP3-Players<br> / -- Touch Panels
footprint WE-TVS_SOT23-3L
pins: 1, 2, 3 GND (power)

## WE-TVS_824022
designator D?, comment <b>TVS Diode Array WE-TVS, Standard Series</b><br><br> / - Low capazity<br> / - No leakage current<br> / - Low clamping voltage<br> / - high ESD voltage protection<br> / - Uni- and bidirectional protection<br><br> / -- DC Distribution<br> / -- Headsets and Accessoires<br> / -- PDAs<br> / -- Digital Cameras<br> / -- MP3-Players<br> / -- Touch Panels
footprint WE-TVS_SOT23-3L
pins: 1, 2, 3 GND (power)

## WE-TVS_8240026
designator D?, comment <b>TVS Diode Array WE-TVS, High Speed Series</b><br><br> / - Low capazity<br> / - No leakage current<br> / - Low clamping voltage<br> / - high ESD voltage protection<br><br> / -- USB 1.0 - 2.0 <br>
footprint WE-TVS_SOT143-4L
pins: 1 GND (power), 2 1, 3 2, 4 VDD (power)

## WE-TVS_8240116
designator D?, comment <b>TVS Diode Array WE-TVS, High Speed Series</b><br><br> / - Low capazity<br> / - No leakage current<br> / - Low clamping voltage<br> / - high ESD voltage protection<br><br> / -- USB 1.0 - 2.0 <br>
footprint WE-TVS_SOT143-4L
pins: 1 GND (power), 2 1, 3 2, 4 VDD (power)

## WE-TVS_8240136
designator D?, comment <b>TVS Diode Array WE-TVS, High Speed Series</b><br><br> / - Low capazity<br> / - No leakage current<br> / - Low clamping voltage<br> / - high ESD voltage protection<br><br> / -- 3.3 VDC Application<br>
footprint WE-TVS_SOT143-4L
pins: 1 GND (power), 2 1, 3 2, 4 VDD (power)

## WE-TVS_82400102
designator D?, comment <b>TVS Diode Array WE-TVS, High Speed Series</b><br><br> / - Low capazity<br> / - No leakage current<br> / - Low clamping voltage<br> / - high ESD voltage protection<br><br> / -- USB 1.0 - 2.0 Flow Thru Design<br>
footprint WE-TVS_SOT23-6L
pins: 1, 2 GND (power), 3 2, 4 3, 5 VDD (power), 6 4

## WE-TVS_82400152
designator D?, comment <b>TVS Diode Array WE-TVS, High Speed Series</b><br><br> / - Low capazity<br> / - No leakage current<br> / - Low clamping voltage<br> / - high ESD voltage protection<br><br> / -- USB 1.0 - 2.0 Flow Thru Design<br>
footprint WE-TVS_SOT563
pins: 1, 2 GND (power), 3 2, 4 3, 5 VDD (power), 6 4

## WE-TVS_82400274
designator D?, comment <b>TVS Diode Array WE-TVS, High Speed Series</b><br><br> / - Low capazity<br> / - No leakage current<br> / - Low clamping voltage<br> / - high ESD voltage protection<br><br> / -- USB 1.0 - 2.0 Double Port<br> / -- Ethernet<br>
footprint WE-TVS_SC70-6L
pins: 1, 2 GND (power), 3 2, 4 3, 5 VDD (power), 6 4

## WE-TVS_82401444
designator D?, comment <b>TVS Diode Array WE-TVS, Super Speed Serie</b><br><br> / - Low capazity<br> / - No leakage current<br> / - Low clamping voltage<br> / - high ESD voltage protection<br><br> / -- SATA<br> / -- DisplayPort<br> / -- DVI<br> / -- HDMI
footprint WE-TVS_MSOP-10L
pins: 1, 2, 3 VDD (power), 4 3, 5 4, 8 GND (power)

## WE-TVS_82401646
designator D?, comment <b>TVS Diode Array WE-TVS, Super Speed Serie</b><br><br> / - Low capazity<br> / - No leakage current<br> / - Low clamping voltage<br> / - high ESD voltage protection<br><br> / -- USB 3.0<br>
footprint WE-TVS_MSOP-8L
pins: 1, 2, 3, 4, 5, 6, 7 GND (power), 8 VDD (power)

## WE-TVS_82402304
designator D?, comment <b>TVS Diode Array WE-TVS, Standard Series</b><br><br> / - Low capazity<br> / - No leakage current<br> / - Low clamping voltage<br> / - high ESD voltage protection<br> / - Uni- and bidirectional protection<br><br> / -- DC Distribution<br> / -- Headsets and Accessoires<br> / -- PDAs<br> / -- Digital Cameras<br> / -- MP3-Players<br> / -- Touch Panels
footprint WE-TVS_SOT23-6L
pins: 1, 2 GND (power), 3 2, 4 3, 5 GND (power), 6 4

## WE-TVS_82402305
designator D?, comment <b>TVS Diode Array WE-TVS, Standard Series</b><br><br> / - Low capazity<br> / - No leakage current<br> / - Low clamping voltage<br> / - high ESD voltage protection<br> / - Uni- and bidirectional protection<br><br> / -- DC Distribution<br> / -- Headsets and Accessoires<br> / -- PDAs<br> / -- Digital Cameras<br> / -- MP3-Players<br> / -- Touch Panels
footprint WE-TVS_SOT23-6L
pins: 1, 2 GND (power), 3 2, 4 3, 5 4, 6 5

## WE-TVS_82402374
designator D?, comment <b>TVS Diode Array WE-TVS, Standard Series</b><br><br> / - Low capazity<br> / - No leakage current<br> / - Low clamping voltage<br> / - high ESD voltage protection<br> / - Uni- and bidirectional protection<br><br> / -- DC Distribution<br> / -- Headsets and Accessoires<br> / -- PDAs<br> / -- Digital Cameras<br> / -- MP3-Players<br> / -- Touch Panels
footprint WE-TVS_SC70-5L
pins: 1, 2 GND (power), 3 2, 4 3, 5 4

## WE-TVS_82402375
designator D?, comment <b>TVS Diode Array WE-TVS, Standard Series</b><br><br> / - Low capazity<br> / - No leakage current<br> / - Low clamping voltage<br> / - high ESD voltage protection<br> / - Uni- and bidirectional protection<br><br> / -- DC Distribution<br> / -- Headsets and Accessoires<br> / -- PDAs<br> / -- Digital Cameras<br> / -- MP3-Players<br> / -- Touch Panels
footprint WE-TVS_SC70-6L
pins: 1, 2 GND (power), 3 2, 4 3, 5 4, 6 5

## WE-UNIT_74911810X
designator T?, comment <b>Off-Line Transformer WE-Unit</b><br><br> / - Nominal input voltage: 85-265 VAC<br> / - Output power 3 W <br> / - Operating temperature: -40°C to +125 °C<br> / - Clearance and creepage distance 6 mm min.<br> / - Isolation voltage 4 kVAC<br><br> / -- Designed for Tiny switch ICs from power integration and NCP101x or 105x of Semiconductor<br> / -- Universal input<br> / -- Offline-switch mode power supplies
footprint WE_E13/7/4_THT_VERTIKAL_6PIN
pins: 1 3, 3 1, 4 6, 6 4

## WE-UNIT_74911811X
designator T?, comment <b>Off-Line Transformer WE-Unit</b><br><br> / - Nominal input voltage: 85-265 VAC<br> / - Output power 3 W <br> / - Operating temperature: -40°C to +125 °C<br> / - Clearance and creepage distance 6 mm min.<br> / - Isolation voltage 4 kVAC<br><br> / -- Designed for Tiny switch ICs from power integration and NCP101x or 105x of Semiconductor<br> / -- Universal input<br> / -- Offline-switch mode power supplies
footprint WE_E13/7/4_THT_HORIZONTAL_9PIN
pins: 1 3, 5 1, 6, 9 4

## WE-UNIT_74911820X
designator T?, comment <b>Off-Line Transformer WE-Unit</b><br><br> / - Nominal input voltage: 85-265 VAC<br> / - Output power 9 W <br> / - Operating temperature: -40°C to +125 °C<br> / - Clearance and creepage distance 6 mm min.<br> / - Isolation voltage 4 kVAC<br><br> / -- Designed for Tiny switch ICs from power integration and NCP101x or 105x of Semiconductor<br> / -- Universal input<br> / -- Offline-switch mode power supplies
footprint WE_E16/7/4_THT_VERTIKAL_10PIN
pins: 1, 2, 3, 4, 5, 6, 7, 8, 9, 10

## WE-UNIT_74911821X
designator T?, comment <b>Off-Line Transformer WE-Unit</b><br><br> / - Nominal input voltage: 85-265 VAC<br> / - Output power 9 W <br> / - Operating temperature: -40°C to +125 °C<br> / - Clearance and creepage distance 6 mm min.<br> / - Isolation voltage 4 kVAC<br><br> / -- Designed for Tiny switch ICs from power integration and NCP101x or 105x of Semiconductor<br> / -- Universal input<br> / -- Offline-switch mode power supplies
footprint WE_E16/8/5_THT_HORIZONTAL_9PIN
pins: 1 5, 2 4, 3, 4 2, 5 1, 6 9, 7 8, 8 7, 9 6

## WE-UNIT_NXP_750340505
designator T?, comment <b>Off-Line Transformer WE-Unit NXP</b><br><br> / - Nominal input voltage: 85-265 VAC<br> / - Operating temperature: -40°C to +125 °C<br> / - Isolation voltage 4 kVAC<br><br> / -- Especially designed for several ICs from NXP SSL2101<br> / -- Universal input<br> / -- Smart meters<br> / -- Dimmable 12 V LED driver<br> / -- Offline-switch mode power supplies
footprint WE_EFD25_THT_HORIZONTAL_10PIN
pins: 1, 2, 3, 4, 5, 6, 7, 8, 9, 10

## WE-UNIT_NXP_750841630
designator T?, comment <b>Off-Line Transformer WE-Unit NXP</b><br><br> / - Nominal input voltage: 85-265 VAC<br> / - Operating temperature: -40°C to +125 °C<br> / - Isolation voltage 4 kVAC<br><br> / -- Especially designed for several ICs from NXP TEA1522<br> / -- Universal input<br> / -- Smart meters<br> / -- Dimmable 12 V LED driver<br> / -- Offline-switch mode power supplies
footprint WE_EE20/10/6_THT_HORIZONTAL_14PIN
pins: 1, 2, 3, 4, 5, 6, 7, 8, 9, 10, 11, 12, 13, 14

## WE-UNIT_NXP_750871013
designator T?, comment <b>Off-Line Transformer WE-Unit NXP</b><br><br> / - Nominal input voltage: 85-265 VAC<br> / - Operating temperature: -40°C to +125 °C<br> / - Isolation voltage 4 kVAC<br><br> / -- Especially designed for several ICs from NXP TEA1521T<br> / -- Universal input<br> / -- Smart meters<br> / -- Dimmable 12 V LED driver<br> / -- Offline-switch mode power supplies
footprint WE_EE13/7/4_THT_HORIZONTAL_9PIN
pins: 1 5, 2 4, 3, 4 2, 5 1, 6 9, 7 8, 8 7, 9 6

## WE-UNIT_NXP_750871035
designator T?, comment <b>Off-Line Transformer WE-Unit NXP</b><br><br> / - Nominal input voltage: 85-265 VAC<br> / - Operating temperature: -40°C to +125 °C<br> / - Isolation voltage 4 kVAC<br><br> / -- Especially designed for several ICs from NXP TEA1522T<br> / -- Universal input<br> / -- Smart meters<br> / -- Dimmable 12 V LED driver<br> / -- Offline-switch mode power supplies
footprint WE_EE13/6/6_THT_HORIZONTAL_8PIN
pins: 1 4, 2 3, 3 2, 4 1, 5 8, 6 7, 7 6, 8 5

## WE-UNIT_NXP_750871530
designator T?, comment <b>Off-Line Transformer WE-Unit NXP</b><br><br> / - Nominal input voltage: 85-265 VAC<br> / - Operating temperature: -40°C to +125 °C<br> / - Isolation voltage 4 kVAC<br><br> / -- Especially designed for several ICs from NXP TEA1522<br> / -- Universal input<br> / -- Smart meters<br> / -- Dimmable 12 V LED driver<br> / -- Offline-switch mode power supplies
footprint WE_EE16/8/5_THT_HORIZONTAL_9PIN
pins: 1 5, 2 4, 3, 4 2, 5 1, 6 9, 7 8, 8 7, 9 6

## WE-UNIT_NXP_750871630
designator T?, comment <b>Off-Line Transformer WE-Unit NXP</b><br><br> / - Nominal input voltage: 85-265 VAC<br> / - Operating temperature: -40°C to +125 °C<br> / - Isolation voltage 4 kVAC<br><br> / -- Especially designed for several ICs from NXP TEA1623PH<br> / -- Universal input<br> / -- Smart meters<br> / -- Dimmable 12 V LED driver<br> / -- Offline-switch mode power supplies
footprint WE_EE20/10/6_THT_HORIZONTAL_14PIN
pins: 1, 2, 3, 4, 5, 6, 7, 8, 9, 10, 11, 12, 13, 14

## WE-UNIT_NXP_750871830
designator T?, comment <b>Off-Line Transformer WE-Unit NXP</b><br><br> / - Nominal input voltage: 85-265 VAC<br> / - Operating temperature: -40°C to +125 °C<br> / - Isolation voltage 4 kVAC<br><br> / -- Especially designed for several ICs from NXP TEA1523P<br> / -- Universal input<br> / -- Smart meters<br> / -- Dimmable 12 V LED driver<br> / -- Offline-switch mode power supplies
footprint WE_EE16/8/5_THT_HORIZONTAL_9PIN
pins: 1 5, 2 4, 3, 4 2, 5 1, 6 9, 7 8, 8 7, 9 6

## WE-UNIT_NXP_750871831
designator T?, comment <b>Off-Line Transformer WE-Unit NXP</b><br><br> / - Nominal input voltage: 85-265 VAC<br> / - Operating temperature: -40°C to +125 °C<br> / - Isolation voltage 4 kVAC<br><br> / -- Especially designed for several ICs from NXP TEA1623PH<br> / -- Universal input<br> / -- Smart meters<br> / -- Dimmable 12 V LED driver<br> / -- Offline-switch mode power supplies
footprint WE_EE25/13/7_THT_HORIZONTAL_13PIN
pins: 1, 2, 3, 4, 5, 6, 7, 8, 9, 10, 11, 12, 13

## WE-UNIT_PI_EE16/7/4
designator T?, comment <b>Off-Line Transformer WE-Unit PI</b><br><br> / - Nominal input voltage: 85-265 VAC<br> / - Output power 4.2 W <br> / - Operating temperature: -40°C to +125 °C<br> / - Clearance and creepage distance 6 mm min.<br> / - Isolation voltage 4 kVAC<br><br> / -- Especially designed for several ICs from Power Integrations LNK605<br> / -- Universal input<br> / -- Offline-switch mode power supplies
footprint WE_EE16/7/4_THT_HORIZONTAL_10PIN
pins: 1, 2, 3, 4, 5, 6, 7, 8, 9, 10

## WE-UNIT_PI_EE16/8/5
designator T?, comment <b>Off-Line Transformer WE-Unit PI</b><br><br> / - Nominal input voltage: 85-265 VAC<br> / - Output power from 2 W to 5 W <br> / - Operating temperature: -40°C to +125 °C<br> / - Clearance and creepage distance 6 mm min.<br> / - Isolation voltage 4 kVAC<br><br> / -- Especially designed for several ICs from Power Integrations<br> / -- Universal input<br> / -- Offline-switch mode power supplies
footprint WE_EE16/8/5_THT_HORIZONTAL_9PIN
pins: 1 5, 2 4, 3, 4 2, 5 1, 6 9, 7 8, 8 7, 9 6

## WE-UNIT_PI_EE20/10/6
designator T?, comment <b>Off-Line Transformer WE-Unit PI</b><br><br> / - Nominal input voltage: 85-265 VAC<br> / - Output power 12.0 W <br> / - Operating temperature: -40°C to +125 °C<br> / - Clearance and creepage distance 6 mm min.<br> / - Isolation voltage 4 kVAC<br><br> / -- Especially designed for several ICs from Power Integrations TNY278<br> / -- Universal input<br> / -- Offline-switch mode power supplies
footprint WE_EE20/10/6_THT_HORIZONTAL_14PIN
pins: 1, 2, 3, 4, 5, 6, 7, 8, 9, 10, 11, 12, 13, 14

## WE-UNIT_PI_EER28/4/11
designator T?, comment <b>Off-Line Transformer WE-Unit PI</b><br><br> / - Nominal input voltage: 85-265 VAC<br> / - Output power 34.4 W <br> / - Operating temperature: -40°C to +125 °C<br> / - Clearance and creepage distance 6 mm min.<br> / - Isolation voltage 4 kVAC<br><br> / -- Especially designed for several ICs from Power Integrations TOP258<br> / -- Universal input<br> / -- Offline-switch mode power supplies
footprint WE_EER28/4/11_HORIZONTAL_12PIN
pins: 1, 2, 3, 4, 5, 6, 7, 8, 9, 10, 11, 12

## WE-UNIT_STM_750310660
designator T?, comment <b>Off-Line Transformer WE-Unit STM</b><br><br> / - Nominal input voltage: 85-265 VAC<br> / - Operating temperature: -40°C to +125 °C<br> / - Isolation voltage 4 kVAC<br><br> / -- Especially designed for several ICs from STMicroelectronics VIPer 17H<br> / -- Universal input<br> / -- Offline-switch mode power supplies
footprint WE_EE16/8/5_THT_HORIZONTAL_6PIN
pins: 1 5, 4 6, 5 1, 6 2, 7 4, 8 3

## WE-UNIT_STM_750370024
designator T?, comment <b>Off-Line Transformer WE-Unit STM</b><br><br> / - Nominal input voltage: 85-265 VAC<br> / - Operating temperature: -40°C to +125 °C<br> / - Isolation voltage 4 kVAC<br><br> / -- Especially designed for several ICs from STMicroelectronics VIPer 17H<br> / -- Universal input<br> / -- Offline-switch mode power supplies
footprint WE_E13/7/4_THT_HORIZONTAL_9PIN
pins: 1, 3 2, 4, 5 3, 6 5, 9 6

## WE-UNIT_STM_750871110
designator T?, comment <b>Off-Line Transformer WE-Unit STM</b><br><br> / - Nominal input voltage: 85-265 VAC<br> / - Operating temperature: -40°C to +125 °C<br> / - Isolation voltage 4 kVAC<br><br> / -- Especially designed for several ICs from STMicroelectronics VIPer 28<br> / -- Universal input<br> / -- Offline-switch mode power supplies
footprint WE_EE20/10/6_THT_HORIZONTAL_14PIN_1
pins: 1 2, 3 1, 4, 6 3, 7 5, 9 6, 12 7, 14 8

## WE-UNIT_STM_750871111
designator T?, comment <b>Off-Line Transformer WE-Unit STM</b><br><br> / - Nominal input voltage: 85-265 VAC<br> / - Operating temperature: -40°C to +125 °C<br> / - Isolation voltage 4 kVAC<br><br> / -- Especially designed for several ICs from STMicroelectronics VIPer 27L<br> / -- Universal input<br> / -- Offline-switch mode power supplies
footprint WE_EE20/10/6_THT_HORIZONTAL_8PIN
pins: 1 2, 3 1, 4, 6 3, 7, 9 8, 12 5, 14 6

## WE-UNIT_STM_EE16/8/5_9PIN
designator T?, comment <b>Off-Line Transformer WE-Unit STM</b><br><br> / - Nominal input voltage: 85-265 VAC<br> / - Operating temperature: -40°C to +125 °C<br> / - Isolation voltage 4 kVAC<br><br> / -- Especially designed for several ICs from STMicroelectronics VIPer 17L and VIPer 15L<br> / -- Universal input<br> / -- Offline-switch mode power supplies
footprint WE_EE16/8/5_THT_HORIZONTAL_9PIN
pins: 1 2, 2 1, 4, 5 3, 6, 7 5, 8, 9 7

## WE-UOSTSCH-1
designator T?, comment <b>Universal Offline Standard Transformers WE-UOST</b><p> / - Approximate 1% stray inductance for symmetrical interference suppression<br> / <br> / -- Input voltage range 85-265VAC (125-375VDC)<br> / -- Output power 12-16W <br> / -- designed to comply with EN61558-2-16: reinforced insulation<br> / -- creepage and clearance distance > 6.5 mm <br> / --Insulation test voltage 4kV(AC)<br> / -- For SMD assembly <br>
MANUFACTURER: Würth Elektronik eiSos GmbH; CREATED-BY: Christin Otto; COMPANY-URL: http://www.we-online.de; CREATED-DATE: MAR 2013; DATASHEET-URL: http://katalog.we-online.de/en/pbs/WE-UOST?m=t&sq=uost&sp=&sp=http%3A%2F%2Fwww.we-online.de%2Fweb%2Fen%2Felectronic_components%2Fsearchpage_PBS.php%3Fsearch%3DUOST
footprint WE-UOST
pins: 1, 3, 4, 6, 7, 9, 11, 12